# Altium footprint library PiezoControlBoard.PcbLib: 30 footprints (part 1 of 2)
Each footprint in its own frame and in the unit in brackets; x right, y up, seen from the top. Pads: shape width x height; smd on the part's side, far side on the other; paste and mask are expansions set on the pad; w line width, h text height; cw(c..) or ccw(c..) is an arc to the next point about the centre after c.
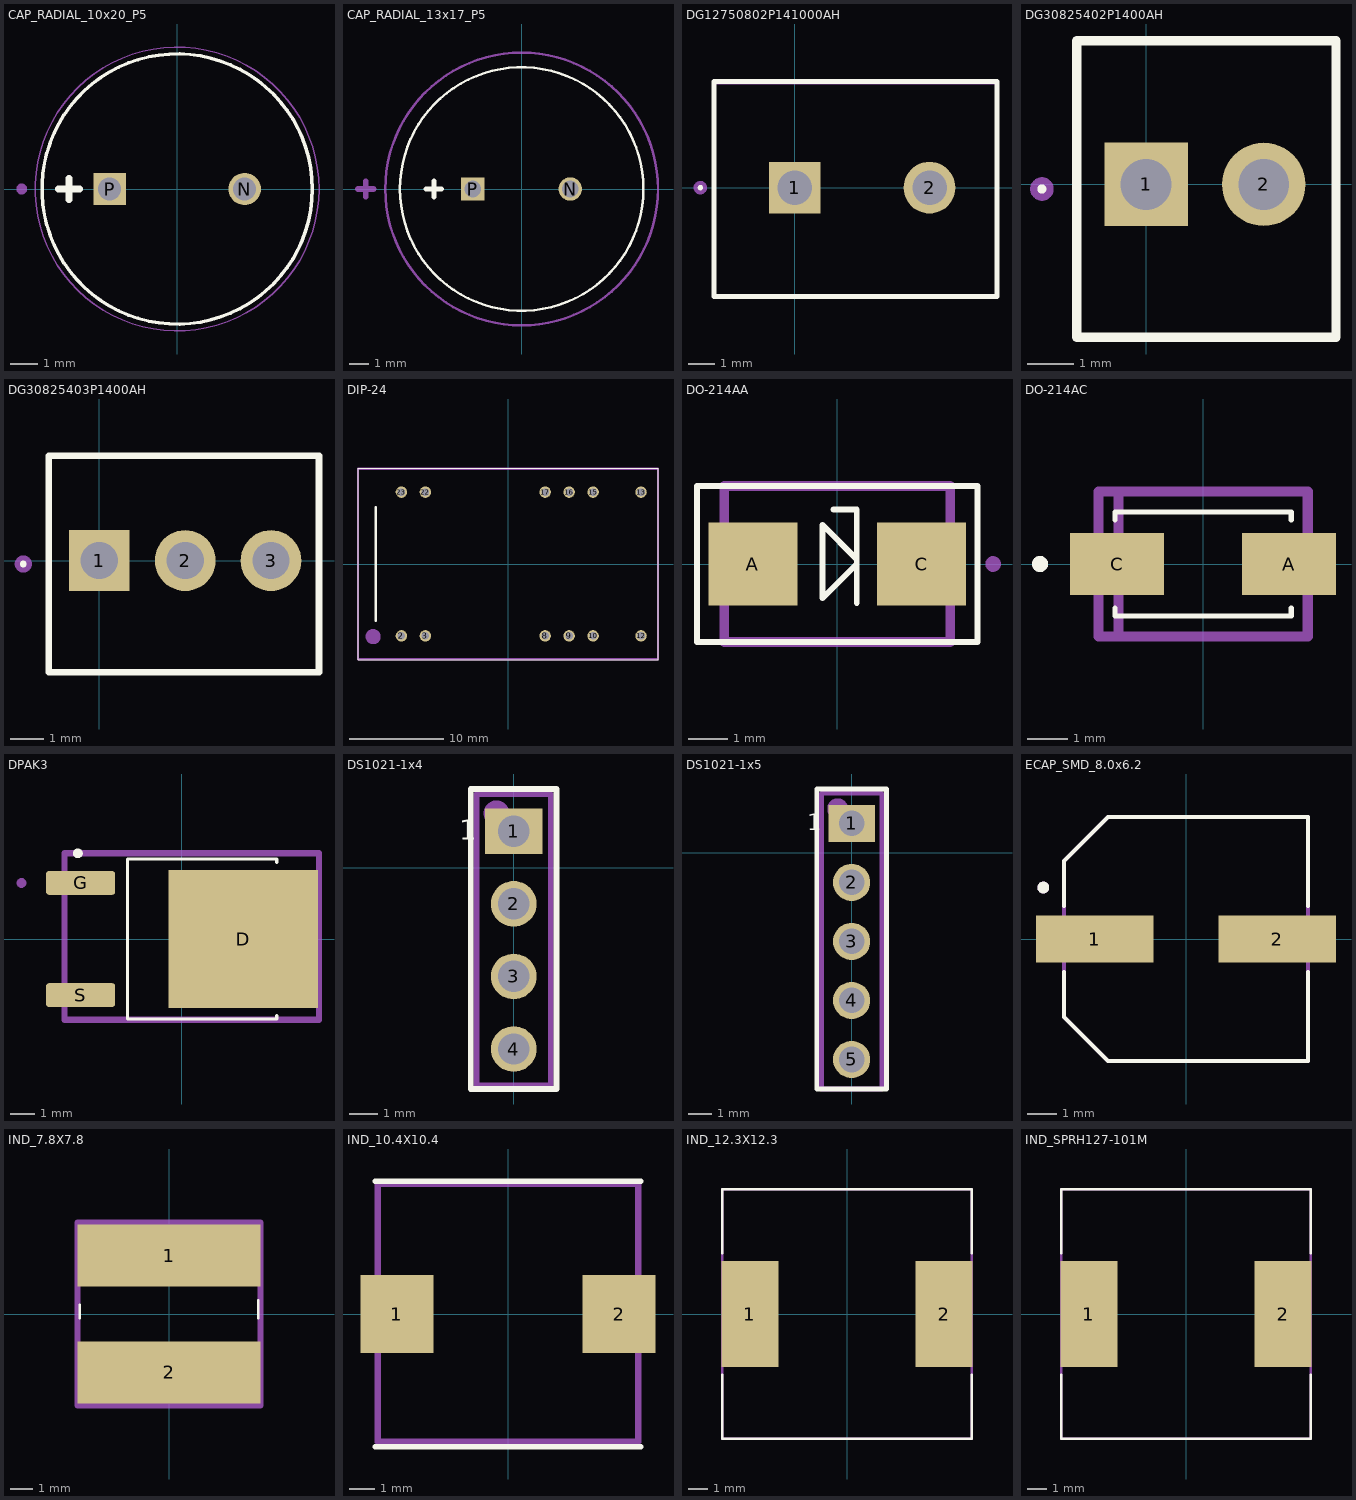
[diagram p0: the footprints below, top view; thin cyan lines are the x and y axes]

## CAP_RADIAL_10x20_P5 [mm]
pads (2):
  round 1.2 hole 0.85: N(2.5,0)
  rect 1.2x1.2 hole 0.85: P(-2.5,0)
Top Overlay:
  circle w0.127: c0,0 r5
  lines w0.254: -4.4,0 -3.6,0 ; -4,-0.4 -4,0.4
Mechanical 29:
  circle w0.05: c0,0 r5.25
  circle w0.2: c-5.75,0 r0.1
  text ".Designator" at -7.546,0.862 h1.52
3D body "EEU-FR1V681.STEP": height 20.01, standoff -16.99, extent -5,-5 5,5

## CAP_RADIAL_13x17_P5 [mm]
pads (2):
  round 1.2 hole 0.85: N(2.5,0)
  rect 1.2x1.2 hole 0.85: P(-2.5,0)
Top Overlay:
  circle w0.127: c0,0 r6.25
  lines w0.254: -4.9,0 -4.1,0 ; -4.5,-0.4 -4.5,0.4
Mechanical 29:
  circle w0.127: c0,0 r7
  lines w0.3: -8.4,0 -7.6,0 ; -8,-0.4 -8,0.4
  text ".Designator" at -7.546,0.862 h1.52
3D body "JRB2D101M05001300250000B.STEP": height 25.01, standoff -18.99, extent -6.23,-6.245 6.25,6.245

## DG12750802P141000AH [mm]
pads (2):
  rect 1.95x1.95 hole 1.3: 1(0,0)
  round 1.95 hole 1.3: 2(5.08,0)
Top Overlay:
  lines w0.1: -3.606,0 ccw(c-3.556,0) -3.506,0 ccw(c-3.556,0) -3.606,0
  lines w0.2: -3.04,-4.1 -3.04,4 7.62,4 7.62,-4.1 -3.04,-4.1
Mechanical 29:
  circle w0.254: c-3.556,0 r0.127
  lines w0.1: -3.048,-4.064 -3.048,3.937 7.62,3.937 7.62,-4.064 -3.048,-4.064
  text ".Designator" at -1.905,-0.338 h2
3D body "DG127-5.08-02P-14-1000AH.stp": height 10.01, standoff -3.89, extent -3.007,-4.177 7.493,3.923

## DG30825402P1400AH [mm]
pads (2):
  rect 1.8x1.8 hole 1.1: 1(0,0)
  round 1.8 hole 1.1: 2(2.54,0)
Top Overlay:
  lines w0.1: -2.3,-0.1 ccw(c-2.25,-0.1) -2.2,-0.1 ccw(c-2.25,-0.1) -2.3,-0.1
  lines w0.2: -1.5,-3.3 4.1,-3.3 4.1,3.1 -1.5,3.1 -1.5,-3.3
Mechanical 29:
  circle w0.254: c-2.25,-0.1 r0.127
  lines w0.1: -1.5,-3.3 4.1,-3.3 4.1,3.1 -1.5,3.1 -1.5,-3.3
  text ".Designator" at -1.905,-0.338 h2
3D body "DG308-2.54-02P-14-00AH.stp": height 8.61, standoff -3.54, extent -1.48,-3.2 4.08,3.1

## DG30825403P1400AH [mm]
pads (3):
  rect 1.8x1.8 hole 1.1: 1(0,0)
  round 1.8 hole 1.1: 2(2.54,0) 3(5.08,0)
Top Overlay:
  lines w0.1: -2.3,-0.1 cw(c-2.25,-0.1) -2.2,-0.1 cw(c-2.25,-0.1) -2.3,-0.1
  lines w0.2: -1.5,-3.3 6.5,-3.3 6.5,3.1 -1.5,3.1 -1.5,-3.3
Mechanical 29:
  circle w0.254: c-2.25,-0.1 r0.127
  lines w0.1: -1.5,-3.3 6.5,-3.3 6.5,3.1 -1.5,3.1 -1.5,-3.3
  text ".Designator" at -1.905,-0.338 h2
3D body "DG308-2.54-03P-14-00AH.stp": height 8.61, standoff -3.54, extent -1.55,-3.21 6.55,3.09

## DIP-24 [mm]
pads (12):
  round 1.22 hole 0.81: 2(-11.3,-7.62) 3(-8.76,-7.62) 8(3.94,-7.62) 9(6.48,-7.62) 10(9.02,-7.62) 12(14.1,-7.62) 13(14.1,7.62) 15(9.02,7.62) 16(6.48,7.62) 17(3.94,7.62) 22(-8.76,7.62) 23(-11.3,7.62)
Top Overlay:
  lines w0.127: -15.9,-10.15 -15.9,10.15 15.9,10.15 15.9,-10.15 -15.9,-10.15
  lines w0.254: -14,-6 -14,6
Mechanical 29:
  circle w1: c-14.3,-7.7 r0.3
  lines w0.254: -15.9,-10.1 15.9,-10.1 15.9,10.1 -15.9,10.1 -15.9,-10.1
  text ".Designator" at -7.446,-0.038 h1.52
3D body "R24-150B.STEP": height 9.4, standoff -4.1, extent -15.773,-10.15 16.027,10.15

## DO-214AA [mm]
pads (2):
  rect 2.28x2.12 smd paste+0 mask+0.102: A(-2.165,0) C(2.165,0)
Top Overlay:
  lines w0.15: -0.1,1.4 0.5,1.4 0.5,1 0.5,-0.75 0.5,-1 ; 0.5,0.063 0.5,0 ; 0.5,0 -0.375,-0.875 -0.375,1 0.5,0.125 0.5,0 ; -3.6,-2 -3.6,2 3.6,2 3.6,-2 -3.6,-2
Mechanical 13:
  circle w0.2: c4,0 r0.1
Mechanical 29:
  circle w0.2: c4,0 r0.1
  lines w0.254: -2.9,-2 -2.9,2 2.9,2 2.9,-2 -2.9,-2
  text ".Designator" at -2.6,-0.133 h0.5
3D body "SMBJ36A.STEP": height 2.66, standoff 0.01, extent -2.67,-1.813 2.67,1.813

## DO-214AC [mm]
pads (2):
  rect 2.33x1.55 smd paste+0 mask+0.102: A(2.135,0) C(-2.135,0)
Top Overlay:
  circle w0.2: c-4.05,0 r0.1
  lines w0.127: -2.187,-1.095 -2.187,-1.292 2.187,-1.292 2.187,-1.095 ; -2.187,1.095 -2.187,1.292 2.187,1.292 2.187,1.095
Mechanical 29:
  lines w0.254: -2.1,-1.8 -2.1,1.8 ; -2.6,-1.8 2.6,-1.8 2.6,1.8 -2.6,1.8 -2.6,-1.8
  text ".Designator" at -3,-0.1 h0.6
3D body "SMAJ12CA.STEP": height 2.44, standoff 0.01, extent -2.61,-1.775 2.61,1.775

## DPAK3 [mm]
pads (3):
  rect 6.1x5.63 smd paste-4: D(2.51,0)
  rrect25% 2.83x0.97 smd: G(-4.14,2.29) S(-4.14,-2.29)
Top Overlay:
  circle w0.2: c-4.25,3.5 r0.1
  lines w0.127: 3.872,-3.135 3.872,-3.27 -2.222,-3.27 -2.222,3.27 3.872,3.27 3.872,3.135
Mechanical 29:
  circle w0.2: c-6.555,2.29 r0.1
  lines w0.254: -4.8,-3.3 -4.8,3.5 5.6,3.5 5.6,-3.3 -4.8,-3.3
  text ".Designator" at -4.2,0.197 h2
3D body "FQD12N20LTM.stp": height 2.39, standoff -0.11, extent -4.81,-3.25 5.58,3.45

## DS1021-1x4 [mm]
pads (4):
  rect 2x1.6 hole 1.1: 1(0,1.27)
  round 1.6 hole 1.1: 2(0,-1.27) 3(0,-3.81) 4(0,-6.35)
Top Overlay:
  lines w0.2: -1.5,-7.75 1.5,-7.75 1.5,2.75 -1.5,2.75 -1.5,-7.75
  text "1" at -1.9,0.97 h0.7
Mechanical 29:
  circle w0.5: c-0.6,1.9 r0.2
  lines w0.2: -1.3,-7.62 1.3,-7.62 1.3,2.57 -1.3,2.57 -1.3,-7.62
  text ".Designator" at -3.499,-0.233 h0.7
3D body "PLS-4.step": height 8.6, standoff -3, extent -1.27,-7.62 1.27,2.54

## DS1021-1x5 [mm]
pads (5):
  rect 2x1.6 hole 1.1: 1(0,1.27)
  round 1.6 hole 1.1: 2(0,-1.27) 3(0,-3.81) 4(0,-6.35) 5(0,-8.89)
Top Overlay:
  lines w0.2: -1.5,-10.16 1.5,-10.16 1.5,2.75 -1.5,2.75 -1.5,-10.16
  text "1" at -1.9,0.97 h0.7
Mechanical 29:
  circle w0.5: c-0.6,1.9 r0.2
  lines w0.2: -1.3,-10.16 -1.3,2.57 1.3,2.57 1.3,-10.16 -1.3,-10.16
  text ".Designator" at -3.499,-0.233 h0.7
3D body "5-Pin Header - Male - 2.54mm.step": height 8.89, standoff -3.05, extent -1.27,-10.12 1.27,2.58

## ECAP_SMD_8.0x6.2 [mm]
pads (2):
  rect 4x1.6 smd: 1(-3.1,0) 2(3.1,0)
Top Overlay:
  circle w0.2: c-4.85,1.75 r0.1
  lines w0.127: -4.15,-1.12 -4.15,-2.65 -2.65,-4.15 4.15,-4.15 4.15,-1.12 ; -4.15,1.12 -4.15,2.65 -2.65,4.15 4.15,4.15 4.15,1.12
Mechanical 29:
  circle w0.2: c-4.85,1.75 r0.1
  lines w0.127: -4.15,-2.65 -4.15,2.65 -2.65,4.15 4.15,4.15 4.15,-4.15 -2.65,-4.15 -4.15,-2.65
  text ".Designator" at -3,-0.1 h0.6
3D body "EEEFK1H470P.STEP": height 6.21, standoff 0.01, extent -4.5,-4.15 4.5,4.15

## IND_7.8X7.8 [mm]
pads (2):
  rect 8x2.7 smd: 1(0,2.55) 2(0,-2.55)
Top Overlay:
  lines w0.1: -3.9,-0.2 -3.9,0.4 ; 3.9,-0.2 3.9,0.6
Mechanical 29:
  lines w0.254: -4,-4 4,-4 4,4 -4,4 -4,-4
  text ".Designator" at -8.446,-0.538 h1.52
3D body "SDR0805-331KL.stp": height 5.31, standoff 0.01, extent -3.9,-3.9 3.9,3.9

## IND_10.4X10.4 [mm]
pads (2):
  rect 2.85x3.05 smd: 1(-4.35,0) 2(4.35,0)
Top Overlay:
  lines w0.2: -5.2,-5.2 5.2,-5.2 ; -5.2,5.2 5.2,5.2
Mechanical 29:
  lines w0.254: -5.1,-5 -5.1,5.1 5.1,5.1 5.1,-5 -5.1,-5
  text ".Designator" at -7.446,-0.038 h1.52
3D body "B82464P4153M000.stp": height 4.71, standoff 0.01, extent -5,-5 5,5

## IND_12.3X12.3 [mm]
pads (2):
  rect 2.9x5.4 smd: 1(-4.95,0) 2(4.95,0)
Top Overlay:
  lines w0.127: -6.35,-3.1 -6.35,-6.35 6.35,-6.35 6.35,-3.1 ; -6.35,3.1 -6.35,6.35 6.35,6.35 6.35,3.1
Mechanical 29:
  lines w0.127: -6.35,-6.35 6.35,-6.35 6.35,6.35 -6.35,6.35 -6.35,-6.35
  text ".Designator" at -7.446,-0.038 h1.52
3D body "SPRH127-101M.STEP": height 8.06, standoff 0.01, extent -6,-6 6,6

## IND_SPRH127-101M [mm]
pads (2):
  rect 2.9x5.4 smd: 1(-4.95,0) 2(4.95,0)
Top Overlay:
  lines w0.127: -6.35,-3.1 -6.35,-6.35 6.35,-6.35 6.35,-3.1 ; -6.35,3.1 -6.35,6.35 6.35,6.35 6.35,3.1
Mechanical 29:
  lines w0.127: -6.35,-6.35 6.35,-6.35 6.35,6.35 -6.35,6.35 -6.35,-6.35
  text ".Designator" at -9.6,-0.534 h2
3D body "SPRH127-101M--3DModel-STEP-56544.STEP": height 8.06, standoff 0.01, extent -6,-6 6,6